# EAGLE library part EPF10K100-CONF-* (library mita-akiba)
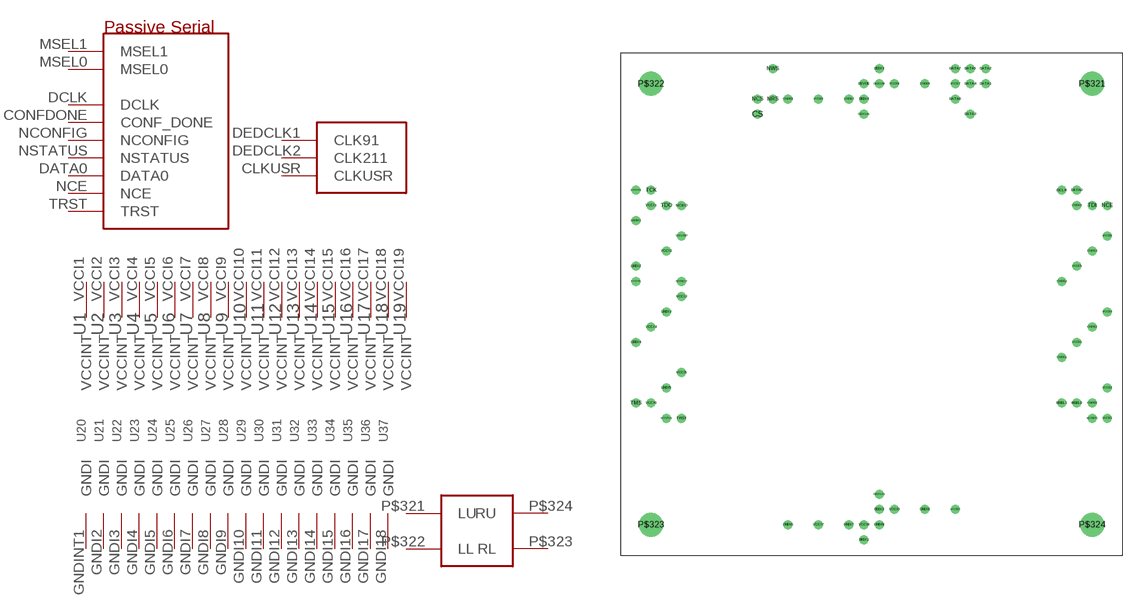
[diagram p10: symbol with the pads of EPF10K100A24CONF; footprint EPF10K100A24CONF]

Designator prefix -; gates 1=VCCINT 2=VCCINT 3=VCCINT 4=VCCINT 5=VCCINT 6=VCCINT 7=VCCINT 8=VCCINT 9=VCCINT 10=VCCINT 11=VCCINT 12=VCCINT 13=VCCINT 14=VCCINT 15=VCCINT 16=VCCINT 17=VCCINT 18=VCCINT 19=VCCINT 20=GNDINT 21=GNDINT 22=GNDINT 23=GNDINT 24=GNDINT 25=GNDINT 26=GNDINT 27=GNDINT 28=GNDINT 29=GNDINT 30=GNDINT 31=GNDINT 32=GNDINT 33=GNDINT 34=GNDINT 35=GNDINT 36=GNDINT 37=GNDINT G$2=FLEXCLK G$3=QFP52PADS G$1=CONFPS

## EPF10K100-CONF-QFP52  [EPF10K100A24CONF]
CLKUSR  G$2:CLKUSR
CONFDONE  G$1:CONF_DONE
DATA0  G$1:DATA0
DCLK  G$1:DCLK
DEDCLK1  G$2:CLK91
DEDCLK2  G$2:CLK211
GNDI2  21:GNDI  pwr
GNDI3  22:GNDI  pwr
GNDI4  23:GNDI  pwr
GNDI5  24:GNDI  pwr
GNDI6  25:GNDI  pwr
GNDI7  26:GNDI  pwr
GNDI8  27:GNDI  pwr
GNDI9  28:GNDI  pwr
GNDI10  29:GNDI  pwr
GNDI11  30:GNDI  pwr
GNDI12  31:GNDI  pwr
GNDI13  32:GNDI  pwr
GNDI14  33:GNDI  pwr
GNDI15  34:GNDI  pwr
GNDI16  35:GNDI  pwr
GNDI17  36:GNDI  pwr
GNDI18  37:GNDI  pwr
GNDINT1  20:GNDI  pwr
MSEL0  G$1:MSEL0
MSEL1  G$1:MSEL1
NCE  G$1:NCE
NCONFIG  G$1:NCONFIG
NSTATUS  G$1:NSTATUS
P$321  G$3:LU
P$322  G$3:LL
P$323  G$3:RL
P$324  G$3:RU
TRST  G$1:TRST
VCCI1  1:VCCINT  pwr
VCCI2  2:VCCINT  pwr
VCCI3  3:VCCINT  pwr
VCCI4  4:VCCINT  pwr
VCCI5  5:VCCINT  pwr
VCCI6  6:VCCINT  pwr
VCCI7  7:VCCINT  pwr
VCCI8  8:VCCINT  pwr
VCCI9  9:VCCINT  pwr
VCCI10  10:VCCINT  pwr
VCCI11  11:VCCINT  pwr
VCCI12  12:VCCINT  pwr
VCCI13  13:VCCINT  pwr
VCCI14  14:VCCINT  pwr
VCCI15  15:VCCINT  pwr
VCCI16  16:VCCINT  pwr
VCCI17  17:VCCINT  pwr
VCCI18  18:VCCINT  pwr
VCCI19  19:VCCINT  pwr

## Footprint EPF10K100A24CONF (pad centres in mm)
FLEX10K100ARC240 Configure I/O
drill 0.9 pad 1.5: CLKUSR -31.75,11.43; CONFDONE -39.37,19.05; CS -19.05,31.75; DATA0 34.29,19.05; DATA1 19.05,36.83; DATA2 19.05,39.37; DATA3 16.51,31.75; DATA4 16.51,36.83; DATA5 16.51,39.37; DATA6 13.97,34.29; DATA7 13.97,39.37; DCLK 31.75,19.05; DEDCLK1 1.27,-31.75; DEDCLK2 -1.27,31.75; DEDI1 -1.27,-39.37; DEDI2 1.27,-34.29; DEDI3 1.27,39.37; DEDI4 -1.27,34.29; DEVCLRN 1.27,36.83; DEVOE -1.27,36.83; GNDI2 -39.37,6.35; GNDI3 -34.29,-1.27; GNDI4 -39.37,-6.35; GNDI5 -34.29,-13.97; GNDI6 -13.97,-36.83; GNDI7 -3.81,-36.83; GNDI8 1.27,-36.83; GNDI9 8.89,-34.29; GNDI10 36.83,-16.51; GNDI11 31.75,-8.89; GNDI12 36.83,-3.81; GNDI13 31.75,3.81; GNDI14 36.83,8.89; GNDI15 34.29,16.51; GNDI16 8.89,36.83; GNDI17 -3.81,34.29; GNDI18 -13.97,34.29; GNDINT1 -39.37,13.97; INITDONE -39.37,3.81; MSEL0 34.29,-16.51; MSEL1 31.75,-16.51; NCE 39.37,16.51; NCEO -31.75,16.51; NCONFIG 36.83,-19.05; NCS -19.05,34.29; NRS -16.51,34.29; NSTATUS -34.29,-19.05; NWS -16.51,39.37; RDYNBSY -31.75,3.81; TCK -36.83,19.05; TDI 36.83,16.51; TDO -34.29,16.51; TMS -39.37,-16.51; TRST -31.75,-19.05; VCCI1 -36.83,16.51; VCCI2 -34.29,8.89; VCCI3 -31.75,1.27; VCCI4 -36.83,-3.81; VCCI5 -31.75,-11.43; VCCI6 -36.83,-16.51; VCCI7 -8.89,-36.83; VCCI8 -1.27,-36.83; VCCI9 3.81,-34.29; VCCI10 13.97,-34.29; VCCI11 39.37,-19.05; VCCI12 39.37,-13.97; VCCI13 34.29,-6.35; VCCI14 39.37,-1.27; VCCI15 34.29,6.35; VCCI16 39.37,11.43; VCCI17 13.97,36.83; VCCI18 3.81,36.83; VCCI19 -8.89,34.29
drill 3 pad 4: P$321 36.83,36.83; P$322 -36.83,36.83; P$323 -36.83,-36.83; P$324 36.83,-36.83